# Altium footprint library SIPF7_2_MM.PcbLib: 1 footprints
Each footprint in its own frame and in the unit in brackets; x right, y up, seen from the top. Pads: shape width x height; smd on the part's side, far side on the other; paste and mask are expansions set on the pad; w line width, h text height; cw(c..) or ccw(c..) is an arc to the next point about the centre after c.
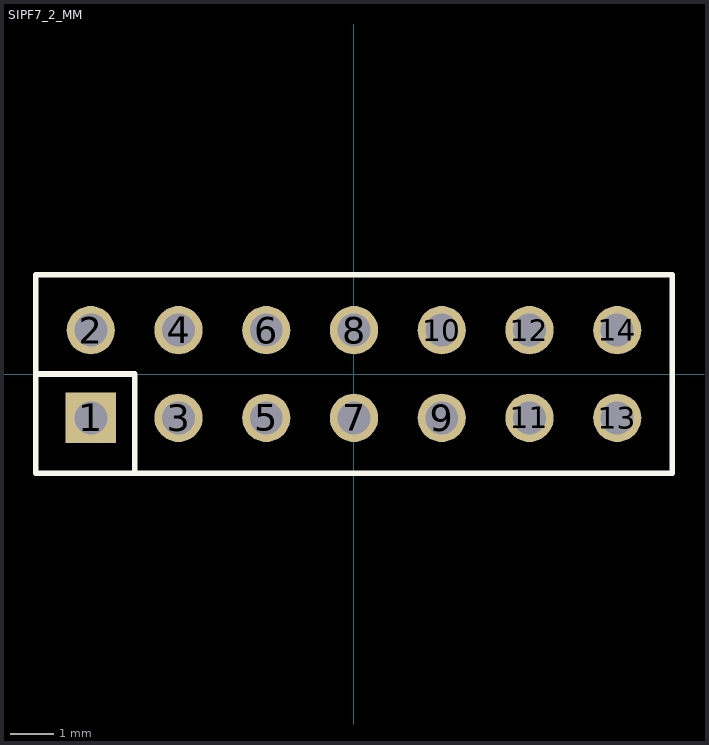
[diagram p0: the footprint, top view; thin cyan lines are the x and y axes]

## SIPF7_2_MM [mm]
pads (14):
  rect 1.15x1.15 hole 0.75: 1(-6,-1)
  round 1.1 hole 0.75: 2(-6,1) 3(-4,-1) 4(-4,1) 5(-2,-1) 6(-2,1) 7(0,-1) 8(0,1) 9(2,-1) 10(2,1) 11(4,-1) 12(4,1) 13(6,-1) 14(6,1)
Top Overlay:
  lines w0.127: -7.254,0 -5,0 -5,-2.254 ; -7.254,-2.267 -7.254,2.267 7.254,2.267 7.254,-2.267 -7.254,-2.267
3D body "female_header_a-bl200-dg-g14d.stp": height 4.1, standoff -2.7, extent -7.25,-2.25 7.25,2.25